# EAGLE library part LPR530AL (library Zoli2_2015-02-22)
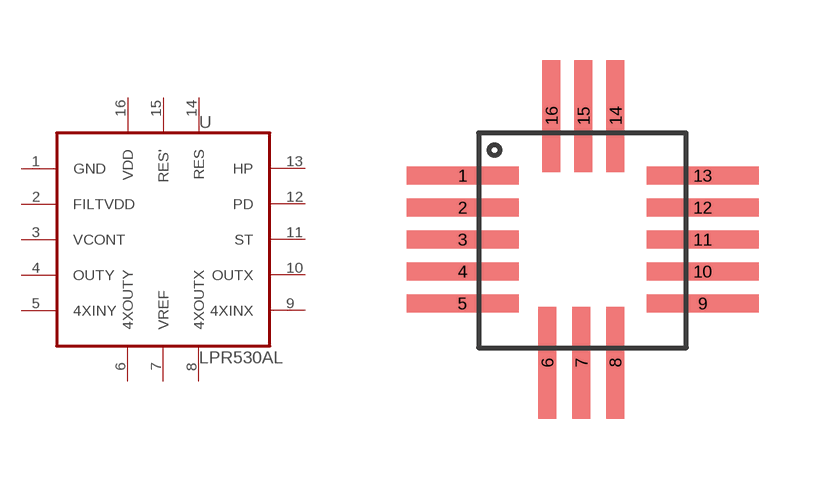
[diagram p71: symbol with the pads of LGA-16; footprint LGA-16]

Designator prefix -

## LPR530AL  [LGA-16]
1  GND
2  FILTVDD
3  VCONT
4  OUTY
5  4XINY
6  4XOUTY
7  VREF
8  4XOUTX
9  4XINX
10  OUTX
11  ST
12  PD
13  HP
14  RES
15  RES'
16  VDD

## Footprint LGA-16 (pad centres in mm)
smd 2.8 x 0.45: 1 -1,0; 2 -1,-0.8; 3 -1,-1.6; 4 -1,-2.4; 5 -1,-3.2; 9 5,-3.2; 10 5,-2.4; 11 5,-1.6; 12 5,-0.8; 13 5,0
smd 0.45 x 2.8: 6 1.119,-4.689; 7 1.972,-4.689; 8 2.819,-4.689; 14 2.824,1.491; 15 2.024,1.491; 16 1.224,1.491